# Altium footprint library TSSOP(PW).PcbLib: 37 footprints (part 3 of 3)
Each footprint in its own frame and in the unit in brackets; x right, y up, seen from the top. Pads: shape width x height; smd on the part's side, far side on the other; paste and mask are expansions set on the pad; w line width, h text height; cw(c..) or ccw(c..) is an arc to the next point about the centre after c.
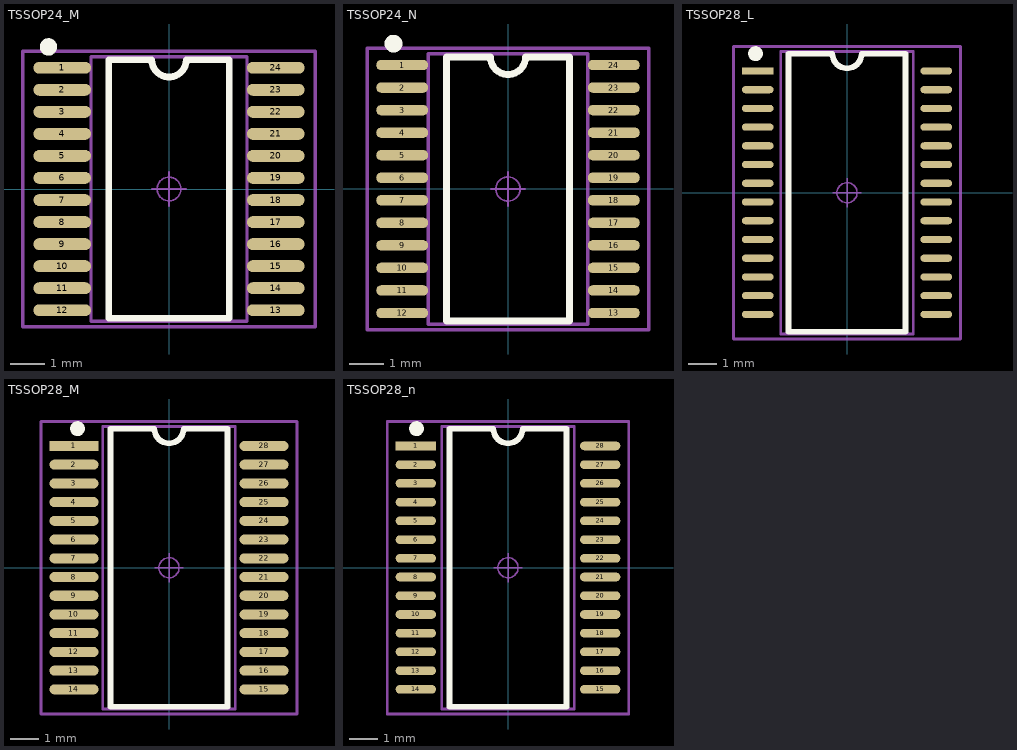
[diagram p2: the footprints below, top view; thin cyan lines are the x and y axes]

## TSSOP24_M [mm] "7.8*6.4*1mm（长宽高）"
pads (24):
  oval 1.7x0.35 smd: 1(-3.15,3.575) 2(-3.15,2.925) 3(-3.15,2.275) 4(-3.15,1.625) 5(-3.15,0.975) 6(-3.15,0.325) 7(-3.15,-0.325) 8(-3.15,-0.975) 9(-3.15,-1.625) 10(-3.15,-2.275) 11(-3.15,-2.925) 12(-3.15,-3.575) 13(3.15,-3.575) 14(3.15,-2.925) 15(3.15,-2.275) 16(3.15,-1.625) 17(3.15,-0.975) 18(3.15,-0.325) 19(3.15,0.325) 20(3.15,0.975) 21(3.15,1.625) 22(3.15,2.275) 23(3.15,2.925) 24(3.15,3.575)
Top Overlay:
  circle w0.254: c-3.556,4.191 r0.13
  lines w0.2: -1.778,-3.81 -1.778,3.81 -0.508,3.81 ccw(c0,3.81) 0.508,3.81 1.778,3.81 1.778,-3.81 -1.778,-3.81
Mechanical 13:
  lines w0.1: -2.3,-3.9 -2.3,3.9 2.3,3.9 2.3,-3.9 -2.3,-3.9
Mechanical 15:
  circle w0.05: c0,0 r0.35
  lines w0.05: -0.5,0 0.5,0 ; 0,-0.5 0,0.5
  lines w0.1: -4.318,-4.064 -4.318,4.064 4.318,4.064 4.318,-4.064 -4.318,-4.064
3D body "TSSOP24.STEP": height 1.03, standoff -0.02, extent -3.202,-3.9 3.202,3.9

## TSSOP24_N [mm] "7.8*6.4*1mm（长宽高）"
pads (24):
  oval 1.5x0.3 smd: 1(-3.05,3.575) 2(-3.05,2.925) 3(-3.05,2.275) 4(-3.05,1.625) 5(-3.05,0.975) 6(-3.05,0.325) 7(-3.05,-0.325) 8(-3.05,-0.975) 9(-3.05,-1.625) 10(-3.05,-2.275) 11(-3.05,-2.925) 12(-3.05,-3.575) 13(3.05,-3.575) 14(3.05,-2.925) 15(3.05,-2.275) 16(3.05,-1.625) 17(3.05,-0.975) 18(3.05,-0.325) 19(3.05,0.325) 20(3.05,0.975) 21(3.05,1.625) 22(3.05,2.275) 23(3.05,2.925) 24(3.05,3.575)
Top Overlay:
  circle w0.254: c-3.302,4.191 r0.13
  lines w0.2: -1.778,-3.81 1.778,-3.81 1.778,3.81 0.508,3.81 cw(c0,3.81) -0.508,3.81 -1.778,3.81 -1.778,-3.81
Mechanical 13:
  lines w0.1: -2.3,-3.9 2.3,-3.9 2.3,3.9 -2.3,3.9 -2.3,-3.9
Mechanical 15:
  circle w0.05: c0,0 r0.35
  lines w0.05: -0.5,0 0.5,0 ; 0,-0.5 0,0.5
  lines w0.1: -4.064,-4.064 4.064,-4.064 4.064,4.064 -4.064,4.064 -4.064,-4.064
3D body "TSSOP24.STEP": height 1.03, standoff -0.02, extent -3.202,-3.9 3.202,3.9

## TSSOP28_L [mm] "9.8*6.4*1mm（长宽高）"
pads (28):
  rect 1.1x0.25 smd: 1(-3.1,4.225)
  oval 1.1x0.25 smd: 2(-3.1,3.575) 3(-3.1,2.925) 4(-3.1,2.275) 5(-3.1,1.625) 6(-3.1,0.975) 7(-3.1,0.325) 8(-3.1,-0.325) 9(-3.1,-0.975) 10(-3.1,-1.625) 11(-3.1,-2.275) 12(-3.1,-2.925) 13(-3.1,-3.575) 14(-3.1,-4.225) 15(3.1,-4.225) 16(3.1,-3.575) 17(3.1,-2.925) 18(3.1,-2.275) 19(3.1,-1.625) 20(3.1,-0.975) 21(3.1,-0.325) 22(3.1,0.325) 23(3.1,0.975) 24(3.1,1.625) 25(3.1,2.275) 26(3.1,2.925) 27(3.1,3.575) 28(3.1,4.225)
Top Overlay:
  circle w0.254: c-3.175,4.826 r0.13
  lines w0.2: -2.032,-4.826 2.032,-4.826 2.032,4.826 0.508,4.826 cw(c0,4.826) -0.508,4.826 -2.032,4.826 -2.032,-4.826
Mechanical 13:
  lines w0.1: -2.3,-4.9 -2.3,4.9 2.3,4.9 2.3,-4.9 -2.3,-4.9
Mechanical 15:
  circle w0.05: c0,0 r0.35
  lines w0.05: -0.5,0 0.5,0 ; 0,-0.5 0,0.5
  lines w0.1: -3.937,-5.08 -3.937,5.08 3.937,5.08 3.937,-5.08 -3.937,-5.08
3D body "TSSOP28.STEP": height 1.03, standoff -0.02, extent -3.202,-4.9 3.202,4.9

## TSSOP28_M [mm] "9.8*6.4*1mm（长宽高）"
pads (28):
  rect 1.7x0.35 smd: 1(-3.3,4.225)
  oval 1.7x0.35 smd: 2(-3.3,3.575) 3(-3.3,2.925) 4(-3.3,2.275) 5(-3.3,1.625) 6(-3.3,0.975) 7(-3.3,0.325) 8(-3.3,-0.325) 9(-3.3,-0.975) 10(-3.3,-1.625) 11(-3.3,-2.275) 12(-3.3,-2.925) 13(-3.3,-3.575) 14(-3.3,-4.225) 15(3.3,-4.225) 16(3.3,-3.575) 17(3.3,-2.925) 18(3.3,-2.275) 19(3.3,-1.625) 20(3.3,-0.975) 21(3.3,-0.325) 22(3.3,0.325) 23(3.3,0.975) 24(3.3,1.625) 25(3.3,2.275) 26(3.3,2.925) 27(3.3,3.575) 28(3.3,4.225)
Top Overlay:
  circle w0.254: c-3.175,4.826 r0.13
  lines w0.2: -2.032,-4.826 -2.032,4.826 -0.508,4.826 ccw(c0,4.826) 0.508,4.826 2.032,4.826 2.032,-4.826 -2.032,-4.826
Mechanical 13:
  lines w0.1: -2.3,-4.9 2.3,-4.9 2.3,4.9 -2.3,4.9 -2.3,-4.9
Mechanical 15:
  circle w0.05: c0,0 r0.35
  lines w0.05: -0.5,0 0.5,0 ; 0,-0.5 0,0.5
  lines w0.1: -4.445,-5.08 -4.445,5.08 4.445,5.08 4.445,-5.08 -4.445,-5.08
3D body "TSSOP28.STEP": height 1.03, standoff -0.02, extent -3.202,-4.9 3.202,4.9

## TSSOP28_n [mm] "9.8*6.4*1mm（长宽高）"
pads (28):
  rect 1.4x0.3 smd: 1(-3.2,4.225)
  oval 1.4x0.3 smd: 2(-3.2,3.575) 3(-3.2,2.925) 4(-3.2,2.275) 5(-3.2,1.625) 6(-3.2,0.975) 7(-3.2,0.325) 8(-3.2,-0.325) 9(-3.2,-0.975) 10(-3.2,-1.625) 11(-3.2,-2.275) 12(-3.2,-2.925) 13(-3.2,-3.575) 14(-3.2,-4.225) 15(3.2,-4.225) 16(3.2,-3.575) 17(3.2,-2.925) 18(3.2,-2.275) 19(3.2,-1.625) 20(3.2,-0.975) 21(3.2,-0.325) 22(3.2,0.325) 23(3.2,0.975) 24(3.2,1.625) 25(3.2,2.275) 26(3.2,2.925) 27(3.2,3.575) 28(3.2,4.225)
Top Overlay:
  circle w0.254: c-3.175,4.826 r0.13
  lines w0.2: -2.032,-4.826 -2.032,4.826 -0.508,4.826 ccw(c0,4.826) 0.508,4.826 2.032,4.826 2.032,-4.826 -2.032,-4.826
Mechanical 13:
  lines w0.1: -2.3,-4.9 2.3,-4.9 2.3,4.9 -2.3,4.9 -2.3,-4.9
Mechanical 15:
  circle w0.05: c0,0 r0.35
  lines w0.05: -0.5,0 0.5,0 ; 0,-0.5 0,0.5
  lines w0.1: -4.191,-5.08 4.191,-5.08 4.191,5.08 -4.191,5.08 -4.191,-5.08
3D body "TSSOP28.STEP": height 1.03, standoff -0.02, extent -3.202,-4.9 3.202,4.9